# Altium footprint library INF-PG-TO263-3-2N.PcbLib: 1 footprints
Each footprint in its own frame and in the unit in brackets; x right, y up, seen from the top. Pads: shape width x height; smd on the part's side, far side on the other; paste and mask are expansions set on the pad; w line width, h text height; cw(c..) or ccw(c..) is an arc to the next point about the centre after c.
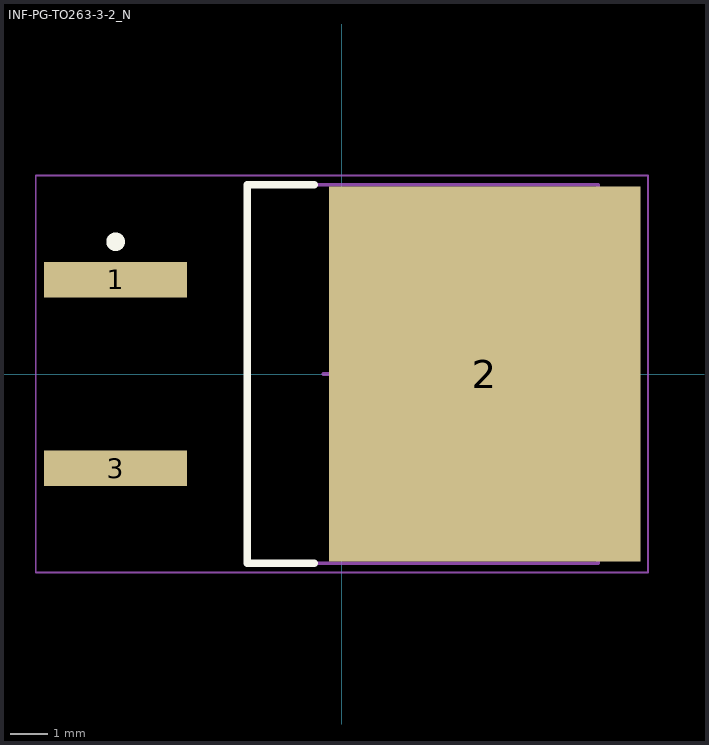
[diagram p0: the footprint, top view; thin cyan lines are the x and y axes]

## INF-PG-TO263-3-2_N [mm] "DPAK, 3-Leads, Body 10x9.25mm, Pitch 2.54mm, IPC Medium Density"
height 4.4
pads (3):
  rect 3.85x0.95 smd: 1(-6.1,2.54) 3(-6.1,-2.54)
  rect 8.4x10.1 smd: 2(3.85,0)
Top Overlay:
  circle w0.25: c-6.1,3.565 r0.125
  lines w0.2: -0.75,-5.1 -2.55,-5.1 -2.55,5.1 -0.75,5.1
Mechanical 13:
  lines w0.1: -2.55,-5.1 6.9,-5.1 6.9,5.1 -2.55,5.1 -2.55,-5.1
Mechanical 15:
  lines w0.05: -8.25,-5.35 8.25,-5.35 8.25,5.35 -8.25,5.35 -8.25,-5.35
  lines w0.1: -0.5,0 0.5,0 ; 0,-0.5 0,0.5
3D body: height 4.4, standoff 0.1, extent -2.55,-5.1 6.9,5.1